# Altium footprint library ds1021_1x4sf11_b.PcbLib: 1 footprints
Each footprint in its own frame and in the unit in brackets; x right, y up, seen from the top. Pads: shape width x height; smd on the part's side, far side on the other; paste and mask are expansions set on the pad; w line width, h text height; cw(c..) or ccw(c..) is an arc to the next point about the centre after c.
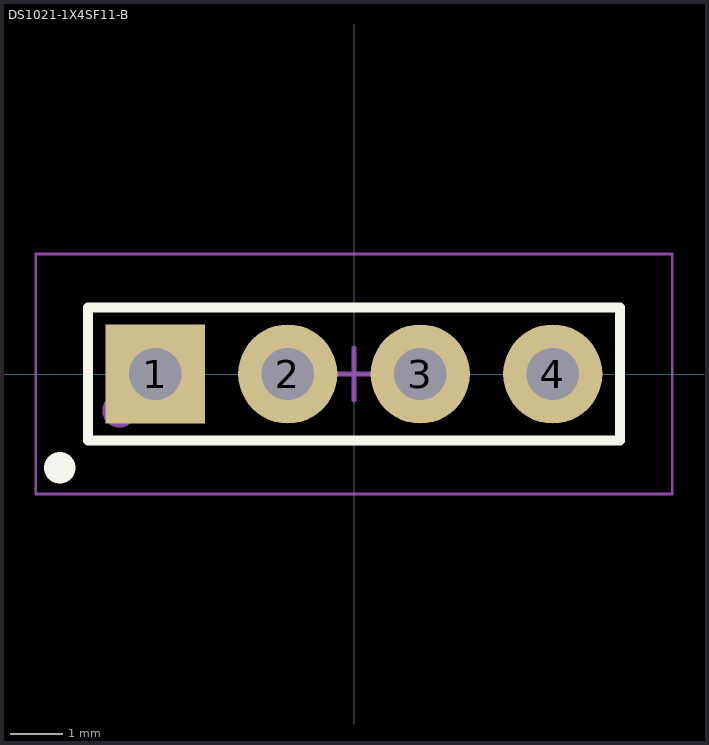
[diagram p0: the footprint, top view; thin cyan lines are the x and y axes]

## DS1021-1X4SF11-B [mm] "PLS 4 Pins 2,54mm Plug Header V/T Type"
height 8.6
pads (4):
  rect 1.9x1.9 hole 1: 1(-3.81,0)
  round 1.9 hole 1: 2(-1.27,0) 3(1.27,0) 4(3.81,0)
Top Overlay:
  circle w0.6: c-5.64,-1.8 r0.001
  lines w0.2: -5.1,-1.275 5.1,-1.275 5.1,1.275 -5.1,1.275 -5.1,-1.275
Top Comment:
  text ".Comment" at 1,2.5 h1.2
Top Designator:
  text ".Designator" at -0.3,2.5 h1.2
Top Component Outline:
  circle w0.35: c-4.5,-0.7 r0.15
  lines w0.1: -5.1,-1.275 -5.1,1.275 5.1,1.275 5.1,-1.275 -5.1,-1.275
Top Courtyard (Mech15):
  lines w0.05: -6.1,-2.3 -6.1,2.3 6.1,2.3 6.1,-2.3 -6.1,-2.3
  lines w0.1: -0.5,0 0.5,0 ; 0,-0.5 0,0.5
3D body "DS1021-1x1SF11-B.STEP": height 8.6, standoff -3, extent -5.08,-1.27 -2.54,1.27
3D body "DS1021-1x1SF11-B.STEP": height 8.6, standoff -3, extent 2.54,-1.27 5.08,1.27
3D body "DS1021-1x1SF11-B.STEP": height 8.6, standoff -3, extent 0,-1.27 2.54,1.27
3D body "DS1021-1x1SF11-B.STEP": height 8.6, standoff -3, extent -2.54,-1.27 0,1.27